# EAGLE library part OPI-ZERO (library OrangePi0)
Orange Pi Zero Footprint. Only 2x13 pin header. -- UNTESTED!
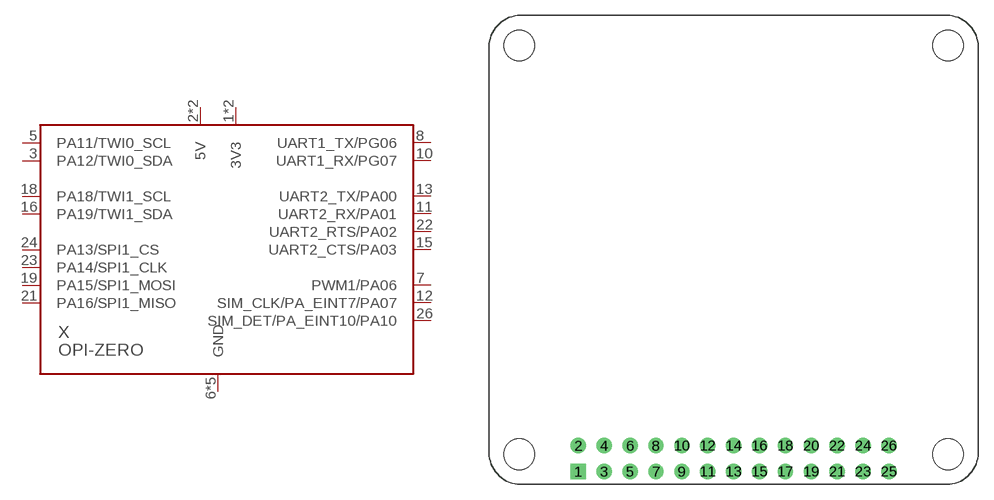
[diagram p0: symbol with the pads of OPI0; footprint OPI0]

Designator prefix X

## OPI-ZERO  [OPI0]
1  3V3  pwr
2  5V  pwr
3  PA12/TWI0_SDA
4  5V  pwr
5  PA11/TWI0_SCL
6  GND  pwr
7  PWM1/PA06
8  UART1_TX/PG06
9  GND  pwr
10  UART1_RX/PG07
11  UART2_RX/PA01
12  SIM_CLK/PA_EINT7/PA07
13  UART2_TX/PA00
14  GND  pwr
15  UART2_CTS/PA03
16  PA19/TWI1_SDA
17  3V3  pwr
18  PA18/TWI1_SCL
19  PA15/SPI1_MOSI
20  GND  pwr
21  PA16/SPI1_MISO
22  UART2_RTS/PA02
23  PA14/SPI1_CLK
24  PA13/SPI1_CS
25  GND  pwr
26  SIM_DET/PA_EINT10/PA10

## Footprint OPI0 (pad centres in mm)
drill 1 square: 1 0,0
drill 1: 2 0,2.54; 3 2.54,0; 4 2.54,2.54; 5 5.08,0; 6 5.08,2.54; 7 7.62,0; 8 7.62,2.54; 9 10.16,0; 10 10.16,2.54; 11 12.7,0; 12 12.7,2.54; 13 15.24,0; 14 15.24,2.54; 15 17.78,0; 16 17.78,2.54; 17 20.32,0; 18 20.32,2.54; 19 22.86,0; 20 22.86,2.54; 21 25.4,0; 22 25.4,2.54; 23 27.94,0; 24 27.94,2.54; 25 30.48,0; 26 30.48,2.54
hole 3 at -5.815,1.694
hole 3 at 36.295,1.694
hole 3 at 36.295,41.805
hole 3 at -5.815,41.805